# Altium footprint library Miscellaneous Devices LC.PcbLib: 559 footprints (part 13 of 35)
Each footprint in its own frame and in the unit in brackets; x right, y up, seen from the top. Pads: shape width x height; smd on the part's side, far side on the other; paste and mask are expansions set on the pad; w line width, h text height; cw(c..) or ccw(c..) is an arc to the next point about the centre after c.
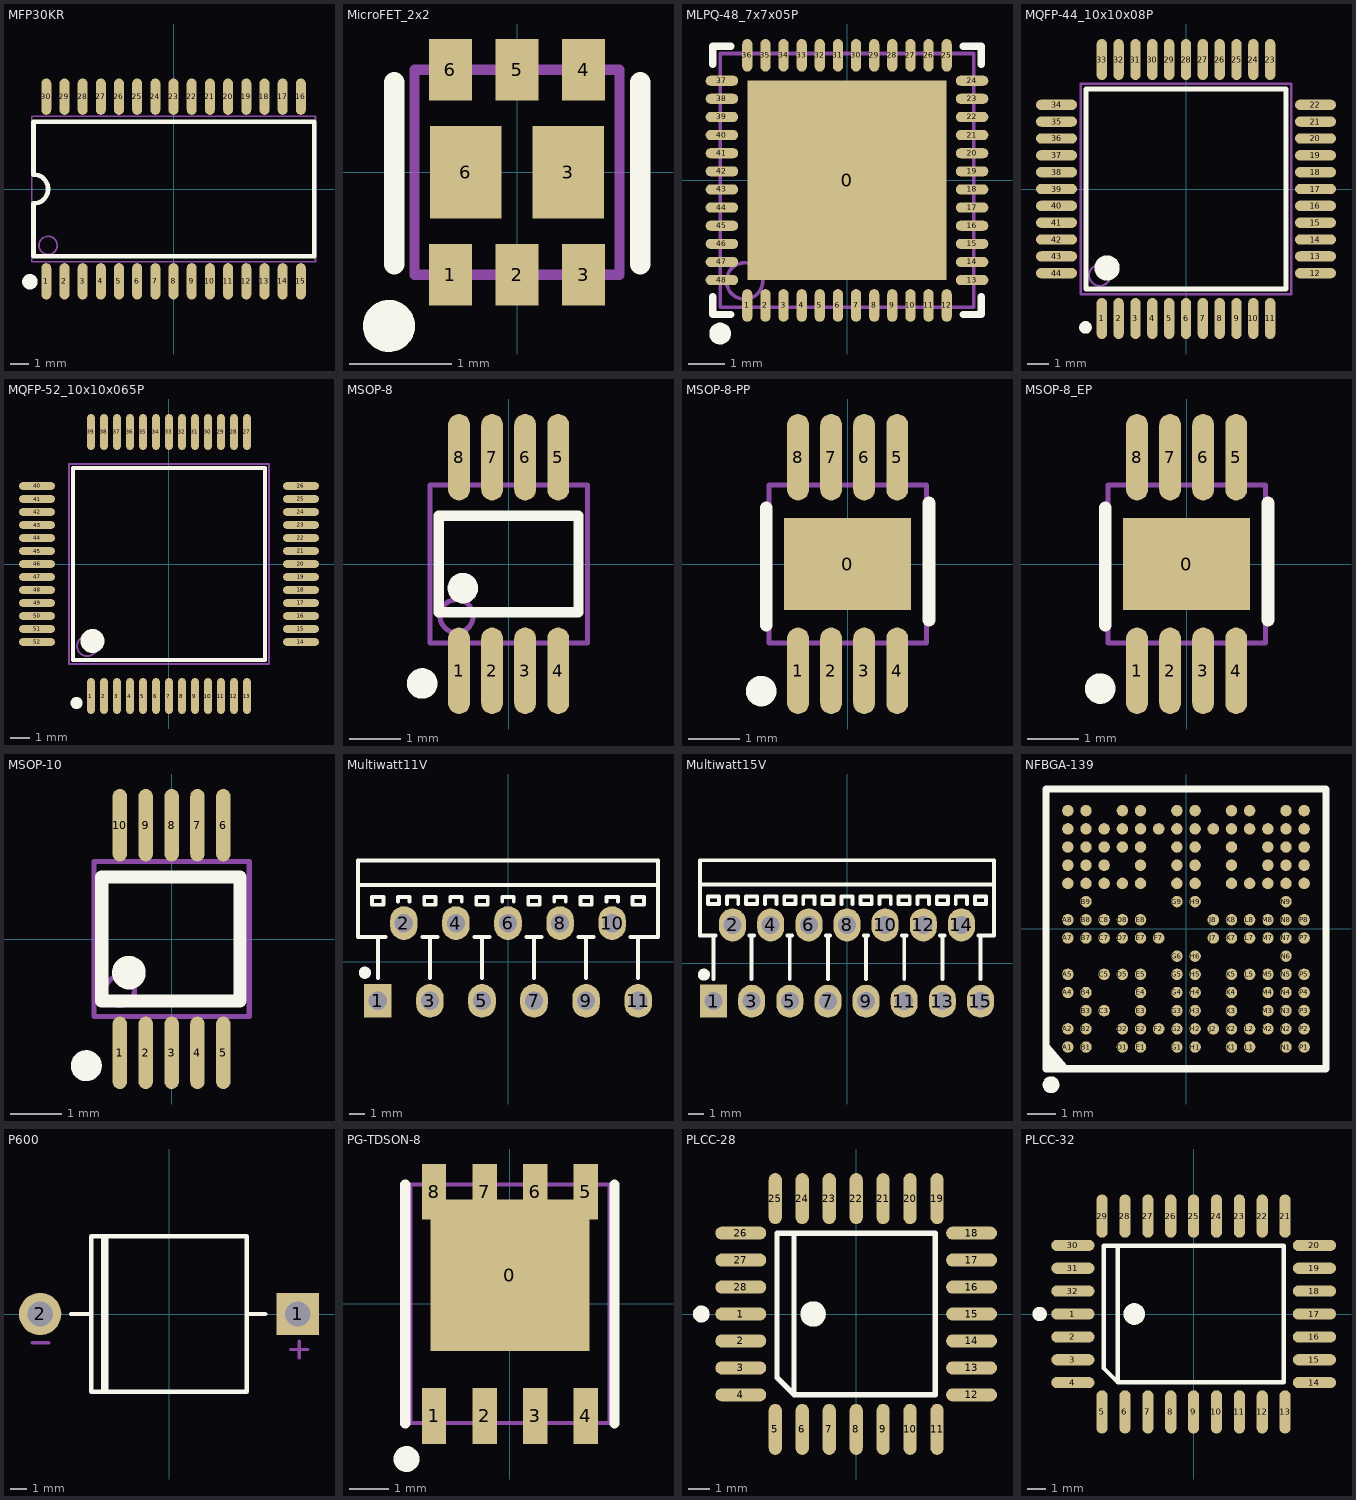
[diagram p12: the footprints below, top view; thin cyan lines are the x and y axes]

## MFP30KR [mm] "THB6128"
pads (30):
  oval 0.55x2 smd: 1(-7,-5.08) 2(-6,-5.08) 3(-5,-5.08) 4(-4,-5.08) 5(-3,-5.08) 6(-2,-5.08) 7(-1,-5.08) 8(0,-5.08) 9(1,-5.08) 10(2,-5.08) 11(3,-5.08) 12(4,-5.08) 13(5,-5.08) 14(6,-5.08) 15(7,-5.08) 16(7,5.08) 17(6,5.08) 18(5,5.08) 19(4,5.08) 20(3,5.08) 21(2,5.08) 22(1,5.08) 23(0,5.08) 24(-1,5.08) 25(-2,5.08) 26(-3,5.08) 27(-4,5.08) 28(-5,5.08) 29(-6,5.08) 30(-7,5.08)
Top Overlay:
  circle w0.45: c-7.9,-5.1 r0.2
  lines w0.254: -7.7,-3.7 7.732,-3.7 7.732,3.7 -7.7,3.7 -7.7,0.8 cw(c-7.7,0) -7.7,-0.8 -7.7,-3.7
Mechanical 13:
  circle w0.1: c-6.9,-3.1 r0.5
  lines w0.1: -7.8,-4 -7.8,4 7.8,4 7.8,-4 -7.8,-4

## MicroFET_2x2 [mm]
pads (8):
  rect 0.42x0.6 smd mask+0.051: 1(-0.65,-1) 2(0,-1) 3(0.65,-1) 4(0.65,1) 5(0,1) 6(-0.65,1)
  rect 0.7x0.9 smd mask+0.051: 3(0.5,0) 6(-0.5,0)
Top Overlay:
  circle w0.254: c-1.25,-1.5 r0.127
  lines w0.2: -1.2,-0.9 -1.2,0.878 ; 1.2,-0.9 1.2,0.878
Mechanical 13:
  lines w0.1: -1,-1 1,-1 1,1 -1,1 -1,-1

## MLPQ-48_7x7x05P [mm]
pads (49):
  rect 5.5x5.5 smd mask+0.051: 0(0,0)
  oval 0.28x0.9 smd mask+0.051: 1(-2.75,-3.45) 2(-2.25,-3.45) 3(-1.75,-3.45) 4(-1.25,-3.45) 5(-0.75,-3.45) 6(-0.25,-3.45) 7(0.25,-3.45) 8(0.75,-3.45) 9(1.25,-3.45) 10(1.75,-3.45) 11(2.25,-3.45) 12(2.75,-3.45) 25(2.75,3.45) 26(2.25,3.45) 27(1.75,3.45) 28(1.25,3.45) 29(0.75,3.45) 30(0.25,3.45) 31(-0.25,3.45) 32(-0.75,3.45) 33(-1.25,3.45) 34(-1.75,3.45) 35(-2.25,3.45) 36(-2.75,3.45)
  oval 0.9x0.28 smd mask+0.051: 13(3.45,-2.75) 14(3.45,-2.25) 15(3.45,-1.75) 16(3.45,-1.25) 17(3.45,-0.75) 18(3.45,-0.25) 19(3.45,0.25) 20(3.45,0.75) 21(3.45,1.25) 22(3.45,1.75) 23(3.45,2.25) 24(3.45,2.75) 37(-3.45,2.75) 38(-3.45,2.25) 39(-3.45,1.75) 40(-3.45,1.25) 41(-3.45,0.75) 42(-3.45,0.25) 43(-3.45,-0.25) 44(-3.45,-0.75) 45(-3.45,-1.25) 46(-3.45,-1.75) 47(-3.45,-2.25) 48(-3.45,-2.75)
Top Overlay:
  circle w0.3: c-3.5,-4.225 r0.15
  lines w0.2: -3.7,-3.2 -3.7,-3.7 -3.2,-3.7 ; -3.7,3.2 -3.7,3.7 -3.2,3.7 ; 3.2,-3.7 3.7,-3.7 3.7,-3.2 ; 3.2,3.7 3.7,3.7 3.7,3.2
Mechanical 13:
  circle w0.1: c-2.825,-2.775 r0.5
  lines w0.1: -3.5,-3.5 -3.5,3.5 3.5,3.5 3.5,-3.5 -3.5,-3.5

## MQFP-44_10x10x08P [mm]
pads (44):
  oval 0.49x1.95 smd: 1(-4,-6.15) 2(-3.2,-6.15) 3(-2.4,-6.15) 4(-1.6,-6.15) 5(-0.8,-6.15) 6(0,-6.15) 7(0.8,-6.15) 8(1.6,-6.15) 9(2.4,-6.15) 10(3.2,-6.15) 11(4,-6.15) 23(4,6.15) 24(3.2,6.15) 25(2.4,6.15) 26(1.6,6.15) 27(0.8,6.15) 28(0,6.15) 29(-0.8,6.15) 30(-1.6,6.15) 31(-2.4,6.15) 32(-3.2,6.15) 33(-4,6.15)
  oval 1.95x0.49 smd: 12(6.15,-4) 13(6.15,-3.2) 14(6.15,-2.4) 15(6.15,-1.6) 16(6.15,-0.8) 17(6.15,0) 18(6.15,0.8) 19(6.15,1.6) 20(6.15,2.4) 21(6.15,3.2) 22(6.15,4) 34(-6.15,4) 35(-6.15,3.2) 36(-6.15,2.4) 37(-6.15,1.6) 38(-6.15,0.8) 39(-6.15,0) 40(-6.15,-0.8) 41(-6.15,-1.6) 42(-6.15,-2.4) 43(-6.15,-3.2) 44(-6.15,-4)
Top Overlay:
  circle w0.6: c-3.75,-3.75 r0.3
  circle w0.3: c-4.775,-6.575 r0.15
  lines w0.254: -4.75,-4.75 -4.75,4.75 4.75,4.75 4.75,-4.75 -4.75,-4.75
Mechanical 13:
  circle w0.1: c-4.1,-4.1 r0.5
  lines w0.1: -5,-5 -5,5 5,5 5,-5 -5,-5

## MQFP-52_10x10x065P [mm]
pads (52):
  oval 0.38x1.8 smd mask+0.051: 1(-3.9,-6.6) 2(-3.25,-6.6) 3(-2.6,-6.6) 4(-1.95,-6.6) 5(-1.3,-6.6) 6(-0.65,-6.6) 7(0,-6.6) 8(0.65,-6.6) 9(1.3,-6.6) 10(1.95,-6.6) 11(2.6,-6.6) 12(3.25,-6.6) 13(3.9,-6.6) 27(3.9,6.6) 28(3.25,6.6) 29(2.6,6.6) 30(1.95,6.6) 31(1.3,6.6) 32(0.65,6.6) 33(0,6.6) 34(-0.65,6.6) 35(-1.3,6.6) 36(-1.95,6.6) 37(-2.6,6.6) 38(-3.25,6.6) 39(-3.9,6.6)
  oval 1.8x0.38 smd mask+0.051: 14(6.6,-3.9) 15(6.6,-3.25) 16(6.6,-2.6) 17(6.6,-1.95) 18(6.6,-1.3) 19(6.6,-0.65) 20(6.6,0) 21(6.6,0.65) 22(6.6,1.3) 23(6.6,1.95) 24(6.6,2.6) 25(6.6,3.25) 26(6.6,3.9) 40(-6.6,3.9) 41(-6.6,3.25) 42(-6.6,2.6) 43(-6.6,1.95) 44(-6.6,1.3) 45(-6.6,0.65) 46(-6.6,0) 47(-6.6,-0.65) 48(-6.6,-1.3) 49(-6.6,-1.95) 50(-6.6,-2.6) 51(-6.6,-3.25) 52(-6.6,-3.9)
Top Overlay:
  circle w0.3: c-4.625,-6.95 r0.15
  circle w0.6: c-3.825,-3.85 r0.3
  lines w0.2: -4.8,-4.8 -4.8,4.8 4.8,4.8 4.8,-4.8 -4.8,-4.8
Mechanical 13:
  circle w0.1: c-4.1,-4.1 r0.5
  lines w0.1: -5,-5 -5,5 5,5 5,-5 -5,-5

## MSOP-8 [mm]
pads (8):
  oval 0.43x1.7 smd mask+0.051: 1(-0.975,-2.1) 2(-0.325,-2.1) 3(0.325,-2.1) 4(0.975,-2.1) 5(0.975,2.1) 6(0.325,2.1) 7(-0.325,2.1) 8(-0.975,2.1)
Top Overlay:
  circle w0.3: c-0.9,-0.475 r0.15
  circle w0.3: c-1.7,-2.35 r0.15
  lines w0.2: -1.375,-0.95 1.375,-0.95 1.375,0.95 -1.375,0.95 -1.375,-0.95
Mechanical 13:
  circle w0.1: c-1.025,-1.025 r0.325
  lines w0.1: -1.55,-1.55 1.55,-1.55 1.55,1.55 -1.55,1.55 -1.55,-1.55

## MSOP-8-PP [mm] "MSOP-8, with EP"
pads (9):
  rect 2.5x1.8 smd mask+0.051: 0(0,0)
  oval 0.43x1.7 smd mask+0.051: 1(-0.975,-2.1) 2(-0.325,-2.1) 3(0.325,-2.1) 4(0.975,-2.1) 5(0.975,2.1) 6(0.325,2.1) 7(-0.325,2.1) 8(-0.975,2.1)
Top Overlay:
  circle w0.3: c-1.7,-2.5 r0.15
  lines w0.254: -1.6,-1.2 -1.6,1.1 ; 1.6,-1.1 1.6,1.2
Mechanical 13:
  lines w0.1: -1.55,-1.55 -1.55,1.55 1.55,1.55 1.55,-1.55 -1.55,-1.55

## MSOP-8_EP [mm] "MSOP-8, with EP"
pads (9):
  rect 2.5x1.8 smd mask+0.051: 0(0,0)
  oval 0.43x1.7 smd mask+0.051: 1(-0.975,-2.1) 2(-0.325,-2.1) 3(0.325,-2.1) 4(0.975,-2.1) 5(0.975,2.1) 6(0.325,2.1) 7(-0.325,2.1) 8(-0.975,2.1)
Top Overlay:
  circle w0.3: c-1.7,-2.45 r0.15
  lines w0.254: -1.6,-1.2 -1.6,1.1 ; 1.6,-1.1 1.6,1.2
Mechanical 13:
  lines w0.1: -1.55,-1.55 1.55,-1.55 1.55,1.55 -1.55,1.55 -1.55,-1.55

## MSOP-10 [mm]
pads (10):
  oval 0.28x1.4 smd mask+0.051: 1(-1,-2.2) 2(-0.5,-2.2) 3(0,-2.2) 4(0.5,-2.2) 5(1,-2.2) 6(1,2.2) 7(0.5,2.2) 8(0,2.2) 9(-0.5,2.2) 10(-1,2.2)
Top Overlay:
  circle w0.4: c-0.825,-0.65 r0.125
  circle w0.3: c-1.65,-2.45 r0.15
  lines w0.254: -1.35,-1.2 -1.35,1.2 1.325,1.2 1.325,-1.2 -1.35,-1.2
Mechanical 13:
  circle w0.1: c-1,-1 r0.283
  lines w0.1: -1.5,-1.5 1.5,-1.5 1.5,1.5 -1.5,1.5 -1.5,-1.5
3D body "MSOP-10.STEP": height 1.2, standoff 0, extent -1.5,-2.46 1.5,2.461

## Multiwatt11V [mm]
pads (11):
  rect 1.8x2.2 hole 1.2: 1(-8.5,-2.54)
  oval 1.8x2.2 hole 1.2: 2(-6.8,2.54) 3(-5.1,-2.54) 4(-3.4,2.54) 5(-1.7,-2.54) 6(0,2.54) 7(1.7,-2.54) 8(3.4,2.54) 9(5.1,-2.54) 10(6.8,2.54) 11(8.5,-2.54)
Top Overlay:
  circle w0.4: c-9.35,-0.7 r0.2
  lines w0.254: -8.5,-1.06 -8.5,1.64 ; -8,1.64 -9.8,1.64 -9.8,5.04 ; -7.175,3.94 -7.175,4.24 -6.425,4.24 -6.425,3.94 ; -5.6,1.64 -4.6,1.64 ; -5.1,-1.06 -5.1,1.64 ; -3.775,3.94 -3.775,4.24 -3.025,4.24 -3.025,3.94 ; -2.2,1.64 -1.2,1.64 ; -1.7,-1.06 -1.7,1.64 ; -0.375,3.94 -0.375,4.24 0.375,4.24 0.375,3.94 ; 1.2,1.64 2.2,1.64 ; 1.7,-1.06 1.7,1.64 ; 3.025,3.94 3.025,4.24 3.775,4.24 3.775,3.94 ; 4.6,1.64 5.6,1.64 ; 5.1,-1.06 5.1,1.64 ; 6.425,3.94 6.425,4.24 7.175,4.24 7.175,3.94 ; 8,1.64 9.8,1.64 9.8,5.04 ; 8.5,-1.06 8.5,1.64 ; -9.8,5.04 -9.8,6.64 9.8,6.64 9.8,5.04 ; -9.8,5.04 9.8,5.04 ; -8.875,3.74 -8.875,4.24 -8.125,4.24 -8.125,3.74 -8.875,3.74 ; -5.475,3.74 -4.725,3.74 -4.725,4.24 -5.475,4.24 -5.475,3.74 ; -2.075,3.74 -1.325,3.74 -1.325,4.24 -2.075,4.24 -2.075,3.74 ; 1.325,3.74 2.075,3.74 2.075,4.24 1.325,4.24 1.325,3.74 ; 4.725,3.74 5.475,3.74 5.475,4.24 4.725,4.24 4.725,3.74 ; 8.125,3.74 8.125,4.24 8.875,4.24 8.875,3.74 8.125,3.74

## Multiwatt15V [mm]
pads (15):
  rect 1.8x2.2 hole 1.2: 1(-8.89,-2.54)
  oval 1.8x2.2 hole 1.2: 2(-7.62,2.54) 3(-6.35,-2.54) 4(-5.08,2.54) 5(-3.81,-2.54) 6(-2.54,2.54) 7(-1.27,-2.54) 8(0,2.54) 9(1.27,-2.54) 10(2.54,2.54) 11(3.81,-2.54) 12(5.08,2.54) 13(6.35,-2.54) 14(7.62,2.54) 15(8.89,-2.54)
Top Overlay:
  circle w0.4: c-9.525,-0.775 r0.2
  lines w0.254: -8.89,-1.06 -8.89,1.84 ; -8.74,1.84 -9.8,1.84 -9.8,5.24 ; -7.995,3.94 -7.995,4.44 -7.245,4.44 -7.245,3.94 ; -6.5,1.84 -6.2,1.84 ; -6.35,-1.06 -6.35,1.84 ; -5.455,3.94 -5.455,4.44 -4.705,4.44 -4.705,3.94 ; -3.96,1.84 -3.66,1.84 ; -3.81,-1.06 -3.81,1.84 ; -2.915,3.94 -2.915,4.44 -2.165,4.44 -2.165,3.94 ; -1.42,1.84 -1.12,1.84 ; -1.27,-1.06 -1.27,1.84 ; -0.375,3.94 -0.375,4.44 0.375,4.44 0.375,3.94 ; 1.12,1.84 1.42,1.84 ; 1.27,-1.06 1.27,1.84 ; 2.165,3.94 2.165,4.44 2.915,4.44 2.915,3.94 ; 3.66,1.84 3.96,1.84 ; 3.81,-1.06 3.81,1.84 ; 4.705,3.94 4.705,4.44 5.455,4.44 5.455,3.94 ; 6.2,1.84 6.5,1.84 ; 6.35,-1.06 6.35,1.84 ; 7.245,3.94 7.245,4.44 7.995,4.44 7.995,3.94 ; 8.74,1.84 9.8,1.84 9.8,5.24 ; 8.89,-1.06 8.89,1.84 ; -9.8,5.24 9.8,5.24 ; -9.8,5.24 -9.8,6.84 9.8,6.84 9.8,5.24 ; -9.265,3.94 -8.515,3.94 -8.515,4.44 -9.265,4.44 -9.265,3.94 ; -6.725,3.94 -5.975,3.94 -5.975,4.44 -6.725,4.44 -6.725,3.94 ; -4.185,3.94 -3.435,3.94 -3.435,4.44 -4.185,4.44 -4.185,3.94 ; -1.645,3.94 -1.645,4.44 -0.895,4.44 -0.895,3.94 -1.645,3.94 ; 0.895,3.94 1.645,3.94 1.645,4.44 0.895,4.44 0.895,3.94 ; 3.435,3.94 4.185,3.94 4.185,4.44 3.435,4.44 3.435,3.94 ; 5.975,3.94 6.725,3.94 6.725,4.44 5.975,4.44 5.975,3.94 ; 8.515,3.94 8.515,4.44 9.265,4.44 9.265,3.94 8.515,3.94

## NFBGA-139 [mm]
pads (139):
  round 0.41 smd mask+0.051: A1(-4.225,-4.225) A2(-4.225,-3.575) A4(-4.225,-2.275) A5(-4.225,-1.625) A7(-4.225,-0.325) A8(-4.225,0.325) A10(-4.225,1.625) A11(-4.225,2.275) A12(-4.225,2.925) A13(-4.225,3.575) A14(-4.225,4.225) B1(-3.575,-4.225) B2(-3.575,-3.575) B3(-3.575,-2.925) B4(-3.575,-2.275) B7(-3.575,-0.325) B8(-3.575,0.325) B9(-3.575,0.975) B10(-3.575,1.625) B11(-3.575,2.275) B12(-3.575,2.925) B13(-3.575,3.575) B14(-3.575,4.225) C3(-2.925,-2.925) C5(-2.925,-1.625) C7(-2.925,-0.325) C8(-2.925,0.325) C10(-2.925,1.625) C11(-2.925,2.275) C12(-2.925,2.925) C13(-2.925,3.575) D1(-2.275,-4.225) D2(-2.275,-3.575) D5(-2.275,-1.625) D7(-2.275,-0.325) D8(-2.275,0.325) D10(-2.275,1.625) D12(-2.275,2.925) D13(-2.275,3.575) D14(-2.275,4.225) E1(-1.625,-4.225) E2(-1.625,-3.575) E3(-1.625,-2.925) E4(-1.625,-2.275) E5(-1.625,-1.625) E7(-1.625,-0.325) E8(-1.625,0.325) E10(-1.625,1.625) E11(-1.625,2.275) E12(-1.625,2.925) E13(-1.625,3.575) E14(-1.625,4.225) F2(-0.975,-3.575) F7(-0.975,-0.325) F13(-0.975,3.575) G1(-0.325,-4.225) G2(-0.325,-3.575) G3(-0.325,-2.925) G4(-0.325,-2.275) G5(-0.325,-1.625) G6(-0.325,-0.975) G9(-0.325,0.975) G10(-0.325,1.625) G11(-0.325,2.275) G12(-0.325,2.925) G13(-0.325,3.575) G14(-0.325,4.225) H1(0.325,-4.225) H2(0.325,-3.575) H3(0.325,-2.925) H4(0.325,-2.275) H5(0.325,-1.625) H6(0.325,-0.975) H9(0.325,0.975) H10(0.325,1.625) H11(0.325,2.275) H12(0.325,2.925) H13(0.325,3.575) H14(0.325,4.225) J2(0.975,-3.575) J7(0.975,-0.325) J8(0.975,0.325) J13(0.975,3.575) K1(1.625,-4.225) K2(1.625,-3.575) K3(1.625,-2.925) K4(1.625,-2.275) K5(1.625,-1.625) K7(1.625,-0.325) K8(1.625,0.325) K10(1.625,1.625) K11(1.625,2.275) K12(1.625,2.925) K13(1.625,3.575) K14(1.625,4.225) L1(2.275,-4.225) L2(2.275,-3.575) L5(2.275,-1.625) L7(2.275,-0.325) L8(2.275,0.325) L10(2.275,1.625) L13(2.275,3.575) L14(2.275,4.225) M2(2.925,-3.575) M3(2.925,-2.925) M4(2.925,-2.275) M5(2.925,-1.625) M7(2.925,-0.325) M8(2.925,0.325) M10(2.925,1.625) M11(2.925,2.275) M12(2.925,2.925) M13(2.925,3.575) N1(3.575,-4.225) N2(3.575,-3.575) N3(3.575,-2.925) N4(3.575,-2.275) N5(3.575,-1.625) N6(3.575,-0.975) N7(3.575,-0.325) N8(3.575,0.325) N9(3.575,0.975) N10(3.575,1.625) N11(3.575,2.275) N12(3.575,2.925) N13(3.575,3.575) N14(3.575,4.225) P1(4.225,-4.225) P2(4.225,-3.575) P3(4.225,-2.925) P4(4.225,-2.275) P5(4.225,-1.625) P7(4.225,-0.325) P8(4.225,0.325) P10(4.225,1.625) P11(4.225,2.275) P12(4.225,2.925) P13(4.225,3.575) P14(4.225,4.225)
Top Overlay:
  circle w0.3: c-4.825,-5.575 r0.15
  lines w0.254: -5,-4.2 -4.35,-4.95 ; -4.975,-4.525 -4.625,-4.925 ; -4.625,-4.925 -5,-4.75 -4.625,-4.925 ; -5,-5 5,-5 5,5 -5,5 -5,-5

## P600 [mm]
pads (2):
  rect 2.5x2.5 hole 1.5: 1(7.62,0)
  round 2.5 hole 1.5: 2(-7.62,0)
Top Overlay:
  lines w0.254: -5.8,0 -4.6,0 ; -3.9,-4.6 -3.9,4.6 ; -3.7,-4.6 -3.7,4.6 ; 4.6,0 5.7,0 ; -4.6,-4.6 4.6,-4.6 4.6,4.6 -4.6,4.6 -4.6,-4.6
Mechanical 15:
  lines w0.203: -8.1,-1.7 -7.1,-1.7 ; 7.2,-2.1 8.2,-2.1 ; 7.7,-2.6 7.7,-1.6

## PG-TDSON-8 [mm]
pads (9):
  rect 4x3.81 smd: 0(0,0.716)
  rect 0.61x1.4 smd: 1(-1.905,-2.816) 2(-0.635,-2.816) 3(0.635,-2.816) 4(1.905,-2.816) 5(1.905,2.816) 6(0.635,2.816) 7(-0.635,2.816) 8(-1.905,2.816)
Top Overlay:
  circle w0.4: c-2.6,-3.9 r0.125
  lines w0.254: -2.63,-3 -2.63,3 ; 2.63,-3 2.63,3
Mechanical 13:
  lines w0.1: -2.5,-3 2.5,-3 2.5,3 -2.5,3 -2.5,-3

## PLCC-28 [mm]
pads (28):
  oval 2.4x0.62 smd: 1(-5.435,0) 2(-5.435,-1.27) 3(-5.435,-2.54) 4(-5.435,-3.81) 12(5.435,-3.81) 13(5.435,-2.54) 14(5.435,-1.27) 15(5.435,0) 16(5.435,1.27) 17(5.435,2.54) 18(5.435,3.81) 26(-5.435,3.81) 27(-5.435,2.54) 28(-5.435,1.27)
  oval 0.62x2.4 smd: 5(-3.81,-5.435) 6(-2.54,-5.435) 7(-1.27,-5.435) 8(0,-5.435) 9(1.27,-5.435) 10(2.54,-5.435) 11(3.81,-5.435) 19(3.81,5.435) 20(2.54,5.435) 21(1.27,5.435) 22(0,5.435) 23(-1.27,5.435) 24(-2.54,5.435) 25(-3.81,5.435)
Top Overlay:
  circle w0.4: c-7.3,0 r0.2
  circle w0.6: c-2.03,0 r0.3
  lines w0.254: -2.93,3.8 -2.93,-3.8 ; -2.93,-3.8 -3.73,-3 -3.73,3.8 3.73,3.8 3.73,-3.8 -2.93,-3.8

## PLCC-32 [mm]
pads (32):
  oval 2.4x0.62 smd: 1(-6.705,0) 2(-6.705,-1.27) 3(-6.705,-2.54) 4(-6.705,-3.81) 14(6.705,-3.81) 15(6.705,-2.54) 16(6.705,-1.27) 17(6.705,0) 18(6.705,1.27) 19(6.705,2.54) 20(6.705,3.81) 30(-6.705,3.81) 31(-6.705,2.54) 32(-6.705,1.27)
  oval 0.62x2.4 smd: 5(-5.08,-5.435) 6(-3.81,-5.435) 7(-2.54,-5.435) 8(-1.27,-5.435) 9(0,-5.435) 10(1.27,-5.435) 11(2.54,-5.435) 12(3.81,-5.435) 13(5.08,-5.435) 21(5.08,5.435) 22(3.81,5.435) 23(2.54,5.435) 24(1.27,5.435) 25(0,5.435) 26(-1.27,5.435) 27(-2.54,5.435) 28(-3.81,5.435) 29(-5.08,5.435)
Top Overlay:
  circle w0.4: c-8.55,0 r0.2
  circle w0.6: c-3.3,0 r0.3
  lines w0.254: -4.2,3.8 -4.2,-3.8 ; -4.2,-3.8 5,-3.8 5,3.8 -5,3.8 -5,-3 -4.2,-3.8